# Altium schematic symbol library YellowLED.SchLib: 1 symbol
Pins are listed as number, name and electrical type; pins without a type are passive.

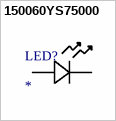
[diagram p0: symbol 150060YS75000]

## 150060YS75000
designator LED?
No Description Available; Mfr_Name: Wurth Electronics; Type: LED Indication
footprint LED_WL-SMCW-SMT_0603_WRE
pins: 1 CATHODE, 2 ANODE